# Altium schematic symbol library IND.Schlib: 1 symbol
Pins are listed as number, name and electrical type; pins without a type are passive.

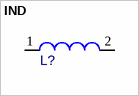
[diagram p0: symbol IND]

## IND
designator L?
Status: To review; LCSC: C3002648; Component Type: Inductors
pins: 1, 2